# EAGLE library part A4982 (library MAÑE)
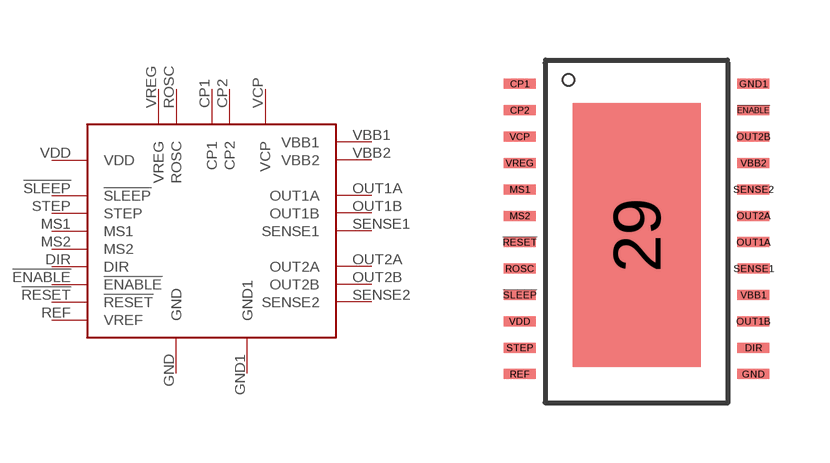
[diagram p28: symbol with the pads of TSSOP24; footprint TSSOP24]

Designator prefix -

## A4982  [TSSOP24]
!ENABLE  !ENABLE
!RESET  !RESET
!SLEEP  !SLEEP
CP1  CP1
CP2  CP2
DIR  DIR
GND  GND  out
GND1  GND1  out
MS1  MS1
MS2  MS2
OUT1A  OUT1A
OUT1B  OUT1B
OUT2A  OUT2A
OUT2B  OUT2B
REF  VREF
ROSC  ROSC
SENSE1  SENSE1
SENSE2  SENSE2
STEP  STEP
VBB1  VBB1
VBB2  VBB2
VCP  VCP
VDD  VDD
VREG  VREG

## Footprint TSSOP24 (pad centres in mm)
smd 3.2 x 6.6: 29 0,0.513
smd 0.8 x 0.25: !ENABLE 2.921,3.637; !RESET -2.921,0.335; !SLEEP -2.921,-0.985; CP1 -2.921,4.298; CP2 -2.921,3.637; DIR 2.921,-2.306; GND 2.921,-2.967; GND1 2.921,4.298; MS1 -2.921,1.656; MS2 -2.921,0.996; OUT1A 2.921,0.335; OUT1B 2.921,-1.646; OUT2A 2.921,0.996; OUT2B 2.921,2.977; REF -2.921,-2.967; ROSC -2.927,-0.325; SENSE1 2.927,-0.325; SENSE2 2.921,1.656; STEP -2.921,-2.306; VBB1 2.921,-0.985; VBB2 2.921,2.317; VCP -2.921,2.977; VDD -2.921,-1.646; VREG -2.921,2.317